# Altium integrated library National Semiconductor Amplifier.IntLib: 1665 symbols (part 36 of 44)
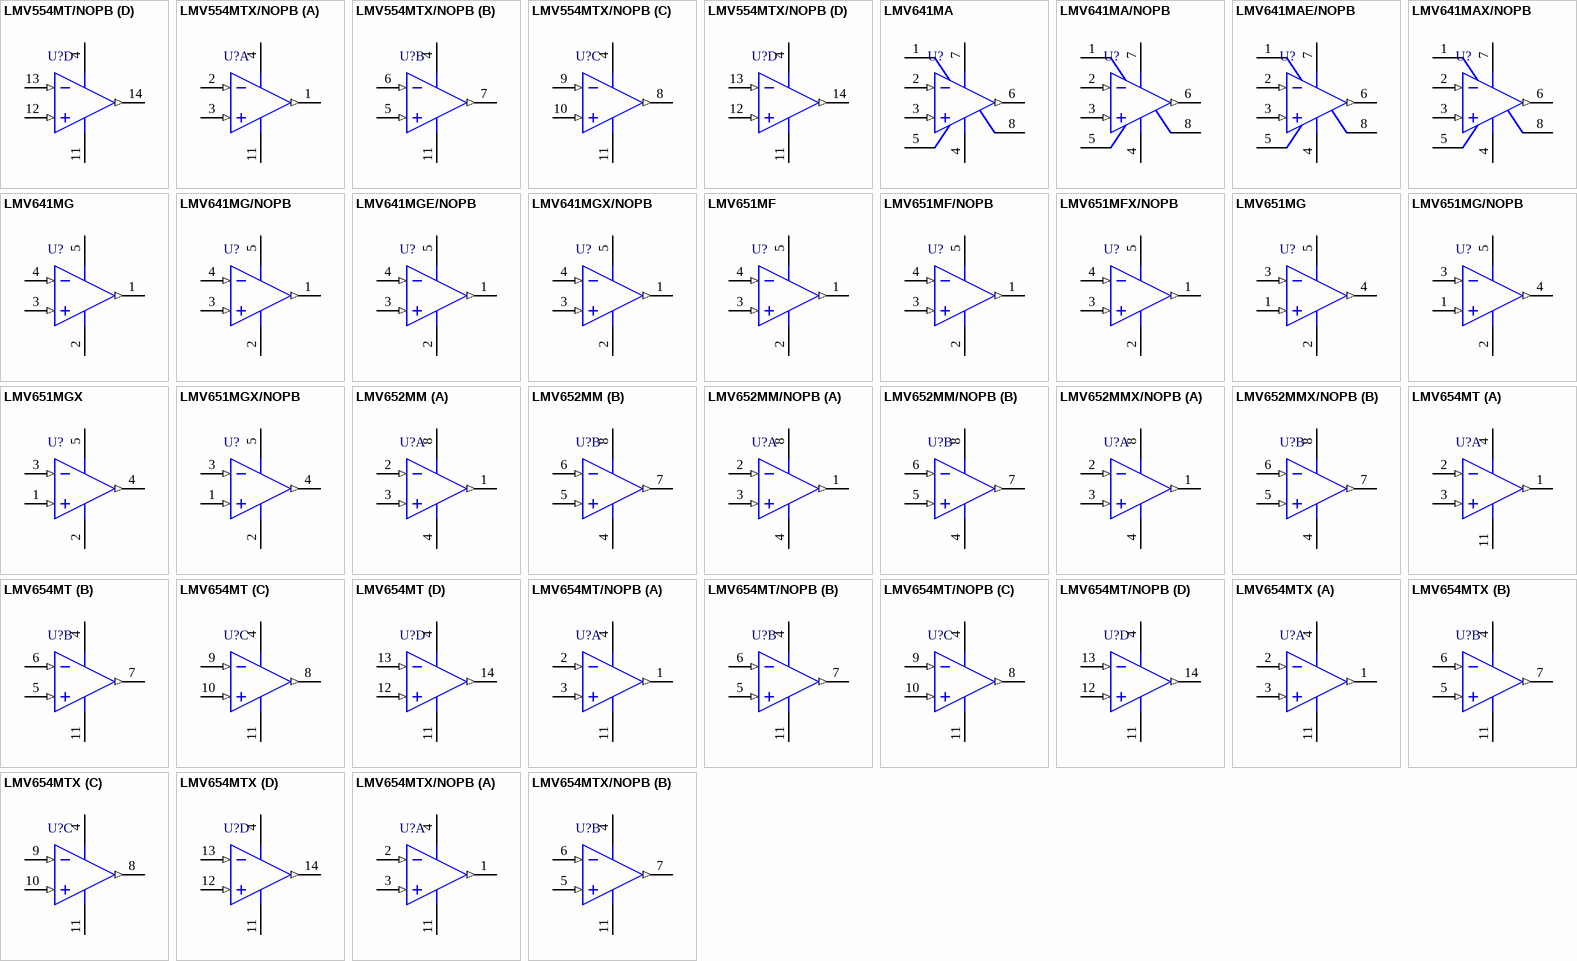
[diagram p119: symbols LMV554MT/NOPB to LMV654MTX/NOPB]

## LMV554MT/NOPB
designator U?
3 MHz, Micropower RRO Amplifier, 14-pin TSSOP, Pb-Free; PartNumber: LMV554MT/NOPB; Manufacturer: National Semiconductor; PackageTopMarking: NSUZXYTT*LMV55*4MT; PowerWise: Y; CompType: Amplifiers; DatasheetVersion: Oct-2008; PackageVersion: revD, Jun-2003; PackageReference: MTC14; PackageDescription: Molded TSSOP, JEDEC, 5 x 4.4 x 0.9mm Body, 14 Lead, 0.65mm Pitch; RoHS: Y; PinCount: 14; High-Reliability: Y; Code_JEDEC: MO-153-AB-1; ComponentLink1Description: Manufacturer URL; ComponentLink1URL: http://www.national.com/; ComponentLink2Description: LMV554 Datasheet; ComponentLink2URL: http://www.national.com/ds/LM/LMV554.pdf; ComponentLink3Description: LMV554 Web Page; ComponentLink3URL: http://www.national.com/pf/LM/LMV554.html; ComponentLink4Description: MTC14 Package Page; ComponentLink4URL: http://www.national.com/packaging/folders/mtc14.html
footprint MTC14_N (TSOP, 14-Leads, Body 5x4.4mm, Pitch 0.65mm, IPC Medium Density)
footprint MTC14_L (TSOP, 14-Leads, Body 5x4.4mm, Pitch 0.65mm, IPC High Density)
footprint MTC14_M (TSOP, 14-Leads, Body 5x4.4mm, Pitch 0.65mm, IPC Low Density)
pins on every part: 4 V+ (power), 11 V- (power)
part A pins: 1 OUTA (out), 2 INA- (in), 3 INA+ (in)
part B pins: 5 INB+ (in), 6 INB- (in), 7 OUTB (out)
part C pins: 8 OUTC (out), 9 INC- (in), 10 INC+ (in)
part D pins: 12 IND+ (in), 13 IND- (in), 14 OUTD (out)

## LMV554MTX/NOPB
designator U?
3 MHz, Micropower RRO Amplifier, 14-pin TSSOP, Pb-Free; PartNumber: LMV554MTX/NOPB; Manufacturer: National Semiconductor; PackageTopMarking: NSUZXYTT*LMV55*4MT; PowerWise: Y; CompType: Amplifiers; DatasheetVersion: Oct-2008; PackageVersion: revD, Jun-2003; PackageReference: MTC14; PackageDescription: Molded TSSOP, JEDEC, 5 x 4.4 x 0.9mm Body, 14 Lead, 0.65mm Pitch; RoHS: Y; PinCount: 14; High-Reliability: Y; Code_JEDEC: MO-153-AB-1; ComponentLink1Description: Manufacturer URL; ComponentLink1URL: http://www.national.com/; ComponentLink2Description: LMV554 Datasheet; ComponentLink2URL: http://www.national.com/ds/LM/LMV554.pdf; ComponentLink3Description: LMV554 Web Page; ComponentLink3URL: http://www.national.com/pf/LM/LMV554.html; ComponentLink4Description: MTC14 Package Page; ComponentLink4URL: http://www.national.com/packaging/folders/mtc14.html
footprint MTC14_N (TSOP, 14-Leads, Body 5x4.4mm, Pitch 0.65mm, IPC Medium Density)
footprint MTC14_L (TSOP, 14-Leads, Body 5x4.4mm, Pitch 0.65mm, IPC High Density)
footprint MTC14_M (TSOP, 14-Leads, Body 5x4.4mm, Pitch 0.65mm, IPC Low Density)
pins on every part: 4 V+ (power), 11 V- (power)
part A pins: 1 OUTA (out), 2 INA- (in), 3 INA+ (in)
part B pins: 5 INB+ (in), 6 INB- (in), 7 OUTB (out)
part C pins: 8 OUTC (out), 9 INC- (in), 10 INC+ (in)
part D pins: 12 IND+ (in), 13 IND- (in), 14 OUTD (out)

## LMV641MA
designator U?
10 MHz, 12V, Low Power Amplifier, 8-pin Narrow SOIC; PartNumber: LMV641MA; Manufacturer: National Semiconductor; PackageTopMarking: NSZXTT*LMV64*1MA; PowerWise: Y; CompType: Amplifiers; DatasheetVersion: Sep-2007; PackageVersion: revM, May-2009; PackageReference: M08A; PackageDescription: SOIC Narrow, 4.9 x 3.9 x 1.45mm, 8 Lead, 1.27mm Pitch; RoHS: Y; PinCount: 8; High-Reliability: Y; Code_JEDEC: MS-012-AA; Code_IPC: SOIC127P600-8; ComponentLink1Description: Manufacturer URL; ComponentLink1URL: http://www.national.com/; ComponentLink2Description: LMV641 Datasheet; ComponentLink2URL: http://www.national.com/ds/LM/LMV641.pdf; ComponentLink3Description: LMV641 Web Page; ComponentLink3URL: http://www.national.com/pf/LM/LMV641.html; ComponentLink4Description: M08A Package Page; ComponentLink4URL: http://www.national.com/packaging/folders/m08a.html
footprint M08A_N (SOIC, 8-Leads, Body 4.9x3.9mm, Pitch 1.27mm, IPC Medium Density)
footprint M08A_L (SOIC, 8-Leads, Body 4.9x3.9mm, Pitch 1.27mm, IPC High Density)
footprint M08A_M (SOIC, 8-Leads, Body 4.9x3.9mm, Pitch 1.27mm, IPC Low Density)
pins: 1 NC, 2 IN- (in), 3 IN+ (in), 4 V- (power), 5 NC, 6 OUT (out), 7 V+ (power), 8 NC

## LMV641MA/NOPB
designator U?
10 MHz, 12V, Low Power Amplifier, 8-pin Narrow SOIC, Pb-Free; PartNumber: LMV641MA/NOPB; Manufacturer: National Semiconductor; PackageTopMarking: NSZXTT*LMV64*1MA; PowerWise: Y; CompType: Amplifiers; DatasheetVersion: Sep-2007; PackageVersion: revM, May-2009; PackageReference: M08A; PackageDescription: SOIC Narrow, 4.9 x 3.9 x 1.45mm, 8 Lead, 1.27mm Pitch; RoHS: Y; PinCount: 8; High-Reliability: Y; Code_JEDEC: MS-012-AA; Code_IPC: SOIC127P600-8; ComponentLink1Description: Manufacturer URL; ComponentLink1URL: http://www.national.com/; ComponentLink2Description: LMV641 Datasheet; ComponentLink2URL: http://www.national.com/ds/LM/LMV641.pdf; ComponentLink3Description: LMV641 Web Page; ComponentLink3URL: http://www.national.com/pf/LM/LMV641.html; ComponentLink4Description: M08A Package Page; ComponentLink4URL: http://www.national.com/packaging/folders/m08a.html
footprint M08A_N (SOIC, 8-Leads, Body 4.9x3.9mm, Pitch 1.27mm, IPC Medium Density)
footprint M08A_L (SOIC, 8-Leads, Body 4.9x3.9mm, Pitch 1.27mm, IPC High Density)
footprint M08A_M (SOIC, 8-Leads, Body 4.9x3.9mm, Pitch 1.27mm, IPC Low Density)
pins: 1 NC, 2 IN- (in), 3 IN+ (in), 4 V- (power), 5 NC, 6 OUT (out), 7 V+ (power), 8 NC

## LMV641MAE/NOPB
designator U?
10 MHz, 12V, Low Power Amplifier, 8-pin Narrow SOIC, Pb-Free; PartNumber: LMV641MAE/NOPB; Manufacturer: National Semiconductor; PackageTopMarking: NSZXTT*LMV64*1MA; PowerWise: Y; CompType: Amplifiers; DatasheetVersion: Sep-2007; PackageVersion: revM, May-2009; PackageReference: M08A; PackageDescription: SOIC Narrow, 4.9 x 3.9 x 1.45mm, 8 Lead, 1.27mm Pitch; RoHS: Y; PinCount: 8; High-Reliability: Y; Code_JEDEC: MS-012-AA; Code_IPC: SOIC127P600-8; ComponentLink1Description: Manufacturer URL; ComponentLink1URL: http://www.national.com/; ComponentLink2Description: LMV641 Datasheet; ComponentLink2URL: http://www.national.com/ds/LM/LMV641.pdf; ComponentLink3Description: LMV641 Web Page; ComponentLink3URL: http://www.national.com/pf/LM/LMV641.html; ComponentLink4Description: M08A Package Page; ComponentLink4URL: http://www.national.com/packaging/folders/m08a.html
footprint M08A_N (SOIC, 8-Leads, Body 4.9x3.9mm, Pitch 1.27mm, IPC Medium Density)
footprint M08A_L (SOIC, 8-Leads, Body 4.9x3.9mm, Pitch 1.27mm, IPC High Density)
footprint M08A_M (SOIC, 8-Leads, Body 4.9x3.9mm, Pitch 1.27mm, IPC Low Density)
pins: 1 NC, 2 IN- (in), 3 IN+ (in), 4 V- (power), 5 NC, 6 OUT (out), 7 V+ (power), 8 NC

## LMV641MAX/NOPB
designator U?
10 MHz, 12V, Low Power Amplifier, 8-pin Narrow SOIC, Pb-Free; PartNumber: LMV641MAX/NOPB; Manufacturer: National Semiconductor; PackageTopMarking: NSZXTT*LMV64*1MA; PowerWise: Y; CompType: Amplifiers; DatasheetVersion: Sep-2007; PackageVersion: revM, May-2009; PackageReference: M08A; PackageDescription: SOIC Narrow, 4.9 x 3.9 x 1.45mm, 8 Lead, 1.27mm Pitch; RoHS: Y; PinCount: 8; High-Reliability: Y; Code_JEDEC: MS-012-AA; Code_IPC: SOIC127P600-8; ComponentLink1Description: Manufacturer URL; ComponentLink1URL: http://www.national.com/; ComponentLink2Description: LMV641 Datasheet; ComponentLink2URL: http://www.national.com/ds/LM/LMV641.pdf; ComponentLink3Description: LMV641 Web Page; ComponentLink3URL: http://www.national.com/pf/LM/LMV641.html; ComponentLink4Description: M08A Package Page; ComponentLink4URL: http://www.national.com/packaging/folders/m08a.html
footprint M08A_N (SOIC, 8-Leads, Body 4.9x3.9mm, Pitch 1.27mm, IPC Medium Density)
footprint M08A_L (SOIC, 8-Leads, Body 4.9x3.9mm, Pitch 1.27mm, IPC High Density)
footprint M08A_M (SOIC, 8-Leads, Body 4.9x3.9mm, Pitch 1.27mm, IPC Low Density)
pins: 1 NC, 2 IN- (in), 3 IN+ (in), 4 V- (power), 5 NC, 6 OUT (out), 7 V+ (power), 8 NC

## LMV641MG
designator U?
10 MHz, 12V, Low Power Amplifier, 5-pin SC-70; PartNumber: LMV641MG; Manufacturer: National Semiconductor; PackageTopMarking: A99*XTT; PowerWise: Y; CompType: Amplifiers; DatasheetVersion: Sep-2007; PackageVersion: revD, Jun-2007; PackageReference: MAA05A; PackageDescription: Molded SC-70, 2 x 1.25 x .9mm, 5 Lead, 0.65mm Pitch; RoHS: Y; PinCount: 5; High-Reliability: Y; Code_JEITA: SC-88A; Code_JEDEC: MO-203-AA; Code_IPC: SOT353-5; ComponentLink1Description: Manufacturer URL; ComponentLink1URL: http://www.national.com/; ComponentLink2Description: LMV641 Datasheet; ComponentLink2URL: http://www.national.com/ds/LM/LMV641.pdf; ComponentLink3Description: LMV641 Web Page; ComponentLink3URL: http://www.national.com/pf/LM/LMV641.html; ComponentLink4Description: MAA05A Package Page; ComponentLink4URL: http://www.national.com/packaging/folders/maa05a.html
footprint MAA05A_N (SOT353, 5-Leads, Body 2x1.3mm, Pitch 0.65mm, Lead Span 2.1mm, IPC Medium Density)
footprint MAA05A_L (SOT353, 5-Leads, Body 2x1.3mm, Pitch 0.65mm, Lead Span 2.1mm, IPC High Density)
footprint MAA05A_M (SOT353, 5-Leads, Body 2x1.3mm, Pitch 0.65mm, Lead Span 2.1mm, IPC Low Density)
pins: 1 OUT (out), 2 V- (power), 3 IN+ (in), 4 IN- (in), 5 V+ (power)

## LMV641MG/NOPB
designator U?
10 MHz, 12V, Low Power Amplifier, 5-pin SC-70, Pb-Free; PartNumber: LMV641MG/NOPB; Manufacturer: National Semiconductor; PackageTopMarking: A99*XTT; PowerWise: Y; CompType: Amplifiers; DatasheetVersion: Sep-2007; PackageVersion: revD, Jun-2007; PackageReference: MAA05A; PackageDescription: Molded SC-70, 2 x 1.25 x .9mm, 5 Lead, 0.65mm Pitch; RoHS: Y; PinCount: 5; High-Reliability: Y; Code_JEITA: SC-88A; Code_JEDEC: MO-203-AA; Code_IPC: SOT353-5; ComponentLink1Description: Manufacturer URL; ComponentLink1URL: http://www.national.com/; ComponentLink2Description: LMV641 Datasheet; ComponentLink2URL: http://www.national.com/ds/LM/LMV641.pdf; ComponentLink3Description: LMV641 Web Page; ComponentLink3URL: http://www.national.com/pf/LM/LMV641.html; ComponentLink4Description: MAA05A Package Page; ComponentLink4URL: http://www.national.com/packaging/folders/maa05a.html
footprint MAA05A_N (SOT353, 5-Leads, Body 2x1.3mm, Pitch 0.65mm, Lead Span 2.1mm, IPC Medium Density)
footprint MAA05A_L (SOT353, 5-Leads, Body 2x1.3mm, Pitch 0.65mm, Lead Span 2.1mm, IPC High Density)
footprint MAA05A_M (SOT353, 5-Leads, Body 2x1.3mm, Pitch 0.65mm, Lead Span 2.1mm, IPC Low Density)
pins: 1 OUT (out), 2 V- (power), 3 IN+ (in), 4 IN- (in), 5 V+ (power)

## LMV641MGE/NOPB
designator U?
10 MHz, 12V, Low Power Amplifier, 5-pin SC-70, Pb-Free; PartNumber: LMV641MGE/NOPB; Manufacturer: National Semiconductor; PackageTopMarking: A99*XTT; PowerWise: Y; CompType: Amplifiers; DatasheetVersion: Sep-2007; PackageVersion: revD, Jun-2007; PackageReference: MAA05A; PackageDescription: Molded SC-70, 2 x 1.25 x .9mm, 5 Lead, 0.65mm Pitch; RoHS: Y; PinCount: 5; High-Reliability: Y; Code_JEITA: SC-88A; Code_JEDEC: MO-203-AA; Code_IPC: SOT353-5; ComponentLink1Description: Manufacturer URL; ComponentLink1URL: http://www.national.com/; ComponentLink2Description: LMV641 Datasheet; ComponentLink2URL: http://www.national.com/ds/LM/LMV641.pdf; ComponentLink3Description: LMV641 Web Page; ComponentLink3URL: http://www.national.com/pf/LM/LMV641.html; ComponentLink4Description: MAA05A Package Page; ComponentLink4URL: http://www.national.com/packaging/folders/maa05a.html
footprint MAA05A_N (SOT353, 5-Leads, Body 2x1.3mm, Pitch 0.65mm, Lead Span 2.1mm, IPC Medium Density)
footprint MAA05A_L (SOT353, 5-Leads, Body 2x1.3mm, Pitch 0.65mm, Lead Span 2.1mm, IPC High Density)
footprint MAA05A_M (SOT353, 5-Leads, Body 2x1.3mm, Pitch 0.65mm, Lead Span 2.1mm, IPC Low Density)
pins: 1 OUT (out), 2 V- (power), 3 IN+ (in), 4 IN- (in), 5 V+ (power)

## LMV641MGX/NOPB
designator U?
10 MHz, 12V, Low Power Amplifier, 5-pin SC-70, Pb-Free; PartNumber: LMV641MGX/NOPB; Manufacturer: National Semiconductor; PackageTopMarking: A99*XTT; PowerWise: Y; CompType: Amplifiers; DatasheetVersion: Sep-2007; PackageVersion: revD, Jun-2007; PackageReference: MAA05A; PackageDescription: Molded SC-70, 2 x 1.25 x .9mm, 5 Lead, 0.65mm Pitch; RoHS: Y; PinCount: 5; High-Reliability: Y; Code_JEITA: SC-88A; Code_JEDEC: MO-203-AA; Code_IPC: SOT353-5; ComponentLink1Description: Manufacturer URL; ComponentLink1URL: http://www.national.com/; ComponentLink2Description: LMV641 Datasheet; ComponentLink2URL: http://www.national.com/ds/LM/LMV641.pdf; ComponentLink3Description: LMV641 Web Page; ComponentLink3URL: http://www.national.com/pf/LM/LMV641.html; ComponentLink4Description: MAA05A Package Page; ComponentLink4URL: http://www.national.com/packaging/folders/maa05a.html
footprint MAA05A_N (SOT353, 5-Leads, Body 2x1.3mm, Pitch 0.65mm, Lead Span 2.1mm, IPC Medium Density)
footprint MAA05A_L (SOT353, 5-Leads, Body 2x1.3mm, Pitch 0.65mm, Lead Span 2.1mm, IPC High Density)
footprint MAA05A_M (SOT353, 5-Leads, Body 2x1.3mm, Pitch 0.65mm, Lead Span 2.1mm, IPC Low Density)
pins: 1 OUT (out), 2 V- (power), 3 IN+ (in), 4 IN- (in), 5 V+ (power)

## LMV651MF
designator U?
12 MHz, Low Voltage, Low Power Amplifier, 5-pin SOT-23; PartNumber: LMV651MF; Manufacturer: National Semiconductor; PackageTopMarking: AY2A*XTT; PowerWise: N; CompType: Amplifiers; High-Reliability: Y; DatasheetVersion: Oct-2008; PackageVersion: revD, Aug-2008; PackageReference: MF05A; PackageDescription: Molded SOT-23, .115 x .063 x .040 in Body, 5 Lead, .0375 in Pitch; RoHS: Y; PinCount: 5; ComponentLink1Description: Manufacturer URL; ComponentLink1URL: http://www.national.com/; ComponentLink2Description: LMV651 Datasheet; ComponentLink2URL: http://www.national.com/ds/LM/LMV651.pdf; ComponentLink3Description: LMV651 Web Page; ComponentLink3URL: http://www.national.com/pf/LM/LMV651.html; ComponentLink4Description: MF05A Package Page; ComponentLink4URL: http://www.national.com/packaging/folders/mf05a.html
footprint MF05A_N (SOT23, 5-Leads, Body 2.9x1.6mm, Pitch 0.95mm, Lead Span 2.8mm, IPC Medium Density)
footprint MF05A_L (SOT23, 5-Leads, Body 2.9x1.6mm, Pitch 0.95mm, Lead Span 2.8mm, IPC High Density)
footprint MF05A_M (SOT23, 5-Leads, Body 2.9x1.6mm, Pitch 0.95mm, Lead Span 2.8mm, IPC Low Density)
pins: 1 OUT (out), 2 V- (power), 3 IN+ (in), 4 IN- (in), 5 V+ (power)

## LMV651MF/NOPB
designator U?
12 MHz, Low Voltage, Low Power Amplifier, 5-pin SOT-23, Pb-Free; PartNumber: LMV651MF/NOPB; Manufacturer: National Semiconductor; PackageTopMarking: AY2A*XTT; PowerWise: N; CompType: Amplifiers; High-Reliability: Y; DatasheetVersion: Oct-2008; PackageVersion: revD, Aug-2008; PackageReference: MF05A; PackageDescription: Molded SOT-23, .115 x .063 x .040 in Body, 5 Lead, .0375 in Pitch; RoHS: Y; PinCount: 5; ComponentLink1Description: Manufacturer URL; ComponentLink1URL: http://www.national.com/; ComponentLink2Description: LMV651 Datasheet; ComponentLink2URL: http://www.national.com/ds/LM/LMV651.pdf; ComponentLink3Description: LMV651 Web Page; ComponentLink3URL: http://www.national.com/pf/LM/LMV651.html; ComponentLink4Description: MF05A Package Page; ComponentLink4URL: http://www.national.com/packaging/folders/mf05a.html
footprint MF05A_N (SOT23, 5-Leads, Body 2.9x1.6mm, Pitch 0.95mm, Lead Span 2.8mm, IPC Medium Density)
footprint MF05A_L (SOT23, 5-Leads, Body 2.9x1.6mm, Pitch 0.95mm, Lead Span 2.8mm, IPC High Density)
footprint MF05A_M (SOT23, 5-Leads, Body 2.9x1.6mm, Pitch 0.95mm, Lead Span 2.8mm, IPC Low Density)
pins: 1 OUT (out), 2 V- (power), 3 IN+ (in), 4 IN- (in), 5 V+ (power)

## LMV651MFX/NOPB
designator U?
12 MHz, Low Voltage, Low Power Amplifier, 5-pin SOT-23, Pb-Free; PartNumber: LMV651MFX/NOPB; Manufacturer: National Semiconductor; PackageTopMarking: AY2A*XTT; PowerWise: N; CompType: Amplifiers; High-Reliability: Y; DatasheetVersion: Oct-2008; PackageVersion: revD, Aug-2008; PackageReference: MF05A; PackageDescription: Molded SOT-23, .115 x .063 x .040 in Body, 5 Lead, .0375 in Pitch; RoHS: Y; PinCount: 5; ComponentLink1Description: Manufacturer URL; ComponentLink1URL: http://www.national.com/; ComponentLink2Description: LMV651 Datasheet; ComponentLink2URL: http://www.national.com/ds/LM/LMV651.pdf; ComponentLink3Description: LMV651 Web Page; ComponentLink3URL: http://www.national.com/pf/LM/LMV651.html; ComponentLink4Description: MF05A Package Page; ComponentLink4URL: http://www.national.com/packaging/folders/mf05a.html
footprint MF05A_N (SOT23, 5-Leads, Body 2.9x1.6mm, Pitch 0.95mm, Lead Span 2.8mm, IPC Medium Density)
footprint MF05A_L (SOT23, 5-Leads, Body 2.9x1.6mm, Pitch 0.95mm, Lead Span 2.8mm, IPC High Density)
footprint MF05A_M (SOT23, 5-Leads, Body 2.9x1.6mm, Pitch 0.95mm, Lead Span 2.8mm, IPC Low Density)
pins: 1 OUT (out), 2 V- (power), 3 IN+ (in), 4 IN- (in), 5 V+ (power)

## LMV651MG
designator U?
12 MHz, Low Voltage, Low Power Amplifier, 5-pin SC-70; PartNumber: LMV651MG; Manufacturer: National Semiconductor; PackageTopMarking: A93*XTT; PowerWise: Y; CompType: Amplifiers; DatasheetVersion: Oct-2008; PackageVersion: revD, Jun-2007; PackageReference: MAA05A; PackageDescription: Molded SC-70, 2 x 1.25 x .9mm, 5 Lead, 0.65mm Pitch; RoHS: N; PinCount: 5; High-Reliability: Y; Code_JEITA: SC-88A; Code_JEDEC: MO-203-AA; Code_IPC: SOT353-5; ComponentLink1Description: Manufacturer URL; ComponentLink1URL: http://www.national.com/; ComponentLink2Description: LMV651 Datasheet; ComponentLink2URL: http://www.national.com/ds/LM/LMV651.pdf; ComponentLink3Description: LMV651 Web Page; ComponentLink3URL: http://www.national.com/pf/LM/LMV651.html; ComponentLink4Description: MAA05A Package Page; ComponentLink4URL: http://www.national.com/packaging/folders/maa05a.html
footprint MAA05A_N (SOT353, 5-Leads, Body 2x1.3mm, Pitch 0.65mm, Lead Span 2.1mm, IPC Medium Density)
footprint MAA05A_L (SOT353, 5-Leads, Body 2x1.3mm, Pitch 0.65mm, Lead Span 2.1mm, IPC High Density)
footprint MAA05A_M (SOT353, 5-Leads, Body 2x1.3mm, Pitch 0.65mm, Lead Span 2.1mm, IPC Low Density)
pins: 1 IN+ (in), 2 V- (power), 3 IN- (in), 4 OUT (out), 5 V+ (power)

## LMV651MG/NOPB
designator U?
12 MHz, Low Voltage, Low Power Amplifier, 5-pin SC-70, Pb-Free; PartNumber: LMV651MG/NOPB; Manufacturer: National Semiconductor; PackageTopMarking: A93*XTT; PowerWise: Y; CompType: Amplifiers; DatasheetVersion: Oct-2008; PackageVersion: revD, Jun-2007; PackageReference: MAA05A; PackageDescription: Molded SC-70, 2 x 1.25 x .9mm, 5 Lead, 0.65mm Pitch; RoHS: Y; PinCount: 5; High-Reliability: Y; Code_JEITA: SC-88A; Code_JEDEC: MO-203-AA; Code_IPC: SOT353-5; ComponentLink1Description: Manufacturer URL; ComponentLink1URL: http://www.national.com/; ComponentLink2Description: LMV651 Datasheet; ComponentLink2URL: http://www.national.com/ds/LM/LMV651.pdf; ComponentLink3Description: LMV651 Web Page; ComponentLink3URL: http://www.national.com/pf/LM/LMV651.html; ComponentLink4Description: MAA05A Package Page; ComponentLink4URL: http://www.national.com/packaging/folders/maa05a.html
footprint MAA05A_N (SOT353, 5-Leads, Body 2x1.3mm, Pitch 0.65mm, Lead Span 2.1mm, IPC Medium Density)
footprint MAA05A_L (SOT353, 5-Leads, Body 2x1.3mm, Pitch 0.65mm, Lead Span 2.1mm, IPC High Density)
footprint MAA05A_M (SOT353, 5-Leads, Body 2x1.3mm, Pitch 0.65mm, Lead Span 2.1mm, IPC Low Density)
pins: 1 IN+ (in), 2 V- (power), 3 IN- (in), 4 OUT (out), 5 V+ (power)

## LMV651MGX
designator U?
12 MHz, Low Voltage, Low Power Amplifier, 5-pin SC-70; PartNumber: LMV651MGX; Manufacturer: National Semiconductor; PackageTopMarking: A93*XTT; PowerWise: Y; CompType: Amplifiers; DatasheetVersion: Oct-2008; PackageVersion: revD, Jun-2007; PackageReference: MAA05A; PackageDescription: Molded SC-70, 2 x 1.25 x .9mm, 5 Lead, 0.65mm Pitch; RoHS: N; PinCount: 5; High-Reliability: Y; Code_JEITA: SC-88A; Code_JEDEC: MO-203-AA; Code_IPC: SOT353-5; ComponentLink1Description: Manufacturer URL; ComponentLink1URL: http://www.national.com/; ComponentLink2Description: LMV651 Datasheet; ComponentLink2URL: http://www.national.com/ds/LM/LMV651.pdf; ComponentLink3Description: LMV651 Web Page; ComponentLink3URL: http://www.national.com/pf/LM/LMV651.html; ComponentLink4Description: MAA05A Package Page; ComponentLink4URL: http://www.national.com/packaging/folders/maa05a.html
footprint MAA05A_N (SOT353, 5-Leads, Body 2x1.3mm, Pitch 0.65mm, Lead Span 2.1mm, IPC Medium Density)
footprint MAA05A_L (SOT353, 5-Leads, Body 2x1.3mm, Pitch 0.65mm, Lead Span 2.1mm, IPC High Density)
footprint MAA05A_M (SOT353, 5-Leads, Body 2x1.3mm, Pitch 0.65mm, Lead Span 2.1mm, IPC Low Density)
pins: 1 IN+ (in), 2 V- (power), 3 IN- (in), 4 OUT (out), 5 V+ (power)

## LMV651MGX/NOPB
designator U?
12 MHz, Low Voltage, Low Power Amplifier, 5-pin SC-70, Pb-Free; PartNumber: LMV651MGX/NOPB; Manufacturer: National Semiconductor; PackageTopMarking: A93*XTT; PowerWise: Y; CompType: Amplifiers; DatasheetVersion: Oct-2008; PackageVersion: revD, Jun-2007; PackageReference: MAA05A; PackageDescription: Molded SC-70, 2 x 1.25 x .9mm, 5 Lead, 0.65mm Pitch; RoHS: Y; PinCount: 5; High-Reliability: Y; Code_JEITA: SC-88A; Code_JEDEC: MO-203-AA; Code_IPC: SOT353-5; ComponentLink1Description: Manufacturer URL; ComponentLink1URL: http://www.national.com/; ComponentLink2Description: LMV651 Datasheet; ComponentLink2URL: http://www.national.com/ds/LM/LMV651.pdf; ComponentLink3Description: LMV651 Web Page; ComponentLink3URL: http://www.national.com/pf/LM/LMV651.html; ComponentLink4Description: MAA05A Package Page; ComponentLink4URL: http://www.national.com/packaging/folders/maa05a.html
footprint MAA05A_N (SOT353, 5-Leads, Body 2x1.3mm, Pitch 0.65mm, Lead Span 2.1mm, IPC Medium Density)
footprint MAA05A_L (SOT353, 5-Leads, Body 2x1.3mm, Pitch 0.65mm, Lead Span 2.1mm, IPC High Density)
footprint MAA05A_M (SOT353, 5-Leads, Body 2x1.3mm, Pitch 0.65mm, Lead Span 2.1mm, IPC Low Density)
pins: 1 IN+ (in), 2 V- (power), 3 IN- (in), 4 OUT (out), 5 V+ (power)

## LMV652MM
designator U?
12 MHz, Low Voltage, Low Power Amplifier, 8-pin Mini SOIC; PartNumber: LMV652MM; Manufacturer: National Semiconductor; PackageTopMarking: ZXTT*AB3A; PowerWise: Y; CompType: Amplifiers; DatasheetVersion: Oct-2008; PackageVersion: revF, Apr-2008; PackageReference: MUA08A; PackageDescription: MINI SOIC, .118 x .118 x .034in, 8 Lead, .0256in Pitch; RoHS: Y; PinCount: 8; High-Reliability: Y; Code_JEDEC: MO-187-AA; ComponentLink1Description: Manufacturer URL; ComponentLink1URL: http://www.national.com/; ComponentLink2Description: LMV652 Datasheet; ComponentLink2URL: http://www.national.com/ds/LM/LMV652.pdf; ComponentLink3Description: LMV652 Web Page; ComponentLink3URL: http://www.national.com/pf/LM/LMV652.html; ComponentLink4Description: MUA08A Package Page; ComponentLink4URL: http://www.national.com/packaging/folders/mua08a.html
footprint MUA08A_N (TSOP, 8-Leads, Body 3x3mm, Pitch 0.65mm, IPC Medium Density)
footprint MUA08A_L (TSOP, 8-Leads, Body 3x3mm, Pitch 0.65mm, IPC High Density)
footprint MUA08A_M (TSOP, 8-Leads, Body 3x3mm, Pitch 0.65mm, IPC Low Density)
pins on every part: 4 V- (power), 8 V+ (power)
part A pins: 1 OUTA (out), 2 INA- (in), 3 INA+ (in)
part B pins: 5 INB+ (in), 6 INB- (in), 7 OUTB (out)

## LMV652MM/NOPB
designator U?
12 MHz, Low Voltage, Low Power Amplifier, 8-pin Mini SOIC, Pb-Free; PartNumber: LMV652MM/NOPB; Manufacturer: National Semiconductor; PackageTopMarking: ZXTT*AB3A; PowerWise: Y; CompType: Amplifiers; DatasheetVersion: Oct-2008; PackageVersion: revF, Apr-2008; PackageReference: MUA08A; PackageDescription: MINI SOIC, .118 x .118 x .034in, 8 Lead, .0256in Pitch; RoHS: Y; PinCount: 8; High-Reliability: Y; Code_JEDEC: MO-187-AA; ComponentLink1Description: Manufacturer URL; ComponentLink1URL: http://www.national.com/; ComponentLink2Description: LMV652 Datasheet; ComponentLink2URL: http://www.national.com/ds/LM/LMV652.pdf; ComponentLink3Description: LMV652 Web Page; ComponentLink3URL: http://www.national.com/pf/LM/LMV652.html; ComponentLink4Description: MUA08A Package Page; ComponentLink4URL: http://www.national.com/packaging/folders/mua08a.html
footprint MUA08A_N (TSOP, 8-Leads, Body 3x3mm, Pitch 0.65mm, IPC Medium Density)
footprint MUA08A_L (TSOP, 8-Leads, Body 3x3mm, Pitch 0.65mm, IPC High Density)
footprint MUA08A_M (TSOP, 8-Leads, Body 3x3mm, Pitch 0.65mm, IPC Low Density)
pins on every part: 4 V- (power), 8 V+ (power)
part A pins: 1 OUTA (out), 2 INA- (in), 3 INA+ (in)
part B pins: 5 INB+ (in), 6 INB- (in), 7 OUTB (out)

## LMV652MMX/NOPB
designator U?
12 MHz, Low Voltage, Low Power Amplifier, 8-pin Mini SOIC, Pb-Free; PartNumber: LMV652MMX/NOPB; Manufacturer: National Semiconductor; PackageTopMarking: ZXTT*AB3A; PowerWise: Y; CompType: Amplifiers; DatasheetVersion: Oct-2008; PackageVersion: revF, Apr-2008; PackageReference: MUA08A; PackageDescription: MINI SOIC, .118 x .118 x .034in, 8 Lead, .0256in Pitch; RoHS: Y; PinCount: 8; High-Reliability: Y; Code_JEDEC: MO-187-AA; ComponentLink1Description: Manufacturer URL; ComponentLink1URL: http://www.national.com/; ComponentLink2Description: LMV652 Datasheet; ComponentLink2URL: http://www.national.com/ds/LM/LMV652.pdf; ComponentLink3Description: LMV652 Web Page; ComponentLink3URL: http://www.national.com/pf/LM/LMV652.html; ComponentLink4Description: MUA08A Package Page; ComponentLink4URL: http://www.national.com/packaging/folders/mua08a.html
footprint MUA08A_N (TSOP, 8-Leads, Body 3x3mm, Pitch 0.65mm, IPC Medium Density)
footprint MUA08A_L (TSOP, 8-Leads, Body 3x3mm, Pitch 0.65mm, IPC High Density)
footprint MUA08A_M (TSOP, 8-Leads, Body 3x3mm, Pitch 0.65mm, IPC Low Density)
pins on every part: 4 V- (power), 8 V+ (power)
part A pins: 1 OUTA (out), 2 INA- (in), 3 INA+ (in)
part B pins: 5 INB+ (in), 6 INB- (in), 7 OUTB (out)

## LMV654MT
designator U?
Quad, 12 MHz, Low Voltage, Low Power Amplifier, 14-pin TSSOP; PartNumber: LMV654MT; Manufacturer: National Semiconductor; PackageTopMarking: NSUZXYTT*LMV65*4MT; PowerWise: Y; CompType: Amplifiers; DatasheetVersion: Oct-2008; PackageVersion: revD, Jun-2003; PackageReference: MTC14; PackageDescription: Molded TSSOP, JEDEC, 5 x 4.4 x 0.9mm Body, 14 Lead, 0.65mm Pitch; RoHS: N; PinCount: 14; High-Reliability: Y; Code_JEDEC: MO-153-AB-1; ComponentLink1Description: Manufacturer URL; ComponentLink1URL: http://www.national.com/; ComponentLink2Description: LMV654 Datasheet; ComponentLink2URL: http://www.national.com/ds/LM/LMV654.pdf; ComponentLink3Description: LMV654 Web Page; ComponentLink3URL: http://www.national.com/pf/LM/LMV654.html; ComponentLink4Description: MTC14 Package Page; ComponentLink4URL: http://www.national.com/packaging/folders/mtc14.html
footprint MTC14_N (TSOP, 14-Leads, Body 5x4.4mm, Pitch 0.65mm, IPC Medium Density)
footprint MTC14_L (TSOP, 14-Leads, Body 5x4.4mm, Pitch 0.65mm, IPC High Density)
footprint MTC14_M (TSOP, 14-Leads, Body 5x4.4mm, Pitch 0.65mm, IPC Low Density)
pins on every part: 4 V+ (power), 11 V- (power)
part A pins: 1 OUTA (out), 2 INA- (in), 3 INA+ (in)
part B pins: 5 INB+ (in), 6 INB- (in), 7 OUTB (out)
part C pins: 8 OUTC (out), 9 INC- (in), 10 INC+ (in)
part D pins: 12 IND+ (in), 13 IND- (in), 14 OUTD (out)

## LMV654MT/NOPB
designator U?
Quad, 12 MHz, Low Voltage, Low Power Amplifier, 14-pin TSSOP, Pb-Free; PartNumber: LMV654MT/NOPB; Manufacturer: National Semiconductor; PackageTopMarking: NSUZXYTT*LMV65*4MT; PowerWise: Y; CompType: Amplifiers; DatasheetVersion: Oct-2008; PackageVersion: revD, Jun-2003; PackageReference: MTC14; PackageDescription: Molded TSSOP, JEDEC, 5 x 4.4 x 0.9mm Body, 14 Lead, 0.65mm Pitch; RoHS: Y; PinCount: 14; High-Reliability: Y; Code_JEDEC: MO-153-AB-1; ComponentLink1Description: Manufacturer URL; ComponentLink1URL: http://www.national.com/; ComponentLink2Description: LMV654 Datasheet; ComponentLink2URL: http://www.national.com/ds/LM/LMV654.pdf; ComponentLink3Description: LMV654 Web Page; ComponentLink3URL: http://www.national.com/pf/LM/LMV654.html; ComponentLink4Description: MTC14 Package Page; ComponentLink4URL: http://www.national.com/packaging/folders/mtc14.html
footprint MTC14_N (TSOP, 14-Leads, Body 5x4.4mm, Pitch 0.65mm, IPC Medium Density)
footprint MTC14_L (TSOP, 14-Leads, Body 5x4.4mm, Pitch 0.65mm, IPC High Density)
footprint MTC14_M (TSOP, 14-Leads, Body 5x4.4mm, Pitch 0.65mm, IPC Low Density)
pins on every part: 4 V+ (power), 11 V- (power)
part A pins: 1 OUTA (out), 2 INA- (in), 3 INA+ (in)
part B pins: 5 INB+ (in), 6 INB- (in), 7 OUTB (out)
part C pins: 8 OUTC (out), 9 INC- (in), 10 INC+ (in)
part D pins: 12 IND+ (in), 13 IND- (in), 14 OUTD (out)

## LMV654MTX
designator U?
Quad, 12 MHz, Low Voltage, Low Power Amplifier, 14-pin TSSOP; PartNumber: LMV654MTX; Manufacturer: National Semiconductor; PackageTopMarking: NSUZXYTT*LMV65*4MT; PowerWise: Y; CompType: Amplifiers; DatasheetVersion: Oct-2008; PackageVersion: revD, Jun-2003; PackageReference: MTC14; PackageDescription: Molded TSSOP, JEDEC, 5 x 4.4 x 0.9mm Body, 14 Lead, 0.65mm Pitch; RoHS: N; PinCount: 14; High-Reliability: Y; Code_JEDEC: MO-153-AB-1; ComponentLink1Description: Manufacturer URL; ComponentLink1URL: http://www.national.com/; ComponentLink2Description: LMV654 Datasheet; ComponentLink2URL: http://www.national.com/ds/LM/LMV654.pdf; ComponentLink3Description: LMV654 Web Page; ComponentLink3URL: http://www.national.com/pf/LM/LMV654.html; ComponentLink4Description: MTC14 Package Page; ComponentLink4URL: http://www.national.com/packaging/folders/mtc14.html
footprint MTC14_N (TSOP, 14-Leads, Body 5x4.4mm, Pitch 0.65mm, IPC Medium Density)
footprint MTC14_L (TSOP, 14-Leads, Body 5x4.4mm, Pitch 0.65mm, IPC High Density)
footprint MTC14_M (TSOP, 14-Leads, Body 5x4.4mm, Pitch 0.65mm, IPC Low Density)
pins on every part: 4 V+ (power), 11 V- (power)
part A pins: 1 OUTA (out), 2 INA- (in), 3 INA+ (in)
part B pins: 5 INB+ (in), 6 INB- (in), 7 OUTB (out)
part C pins: 8 OUTC (out), 9 INC- (in), 10 INC+ (in)
part D pins: 12 IND+ (in), 13 IND- (in), 14 OUTD (out)

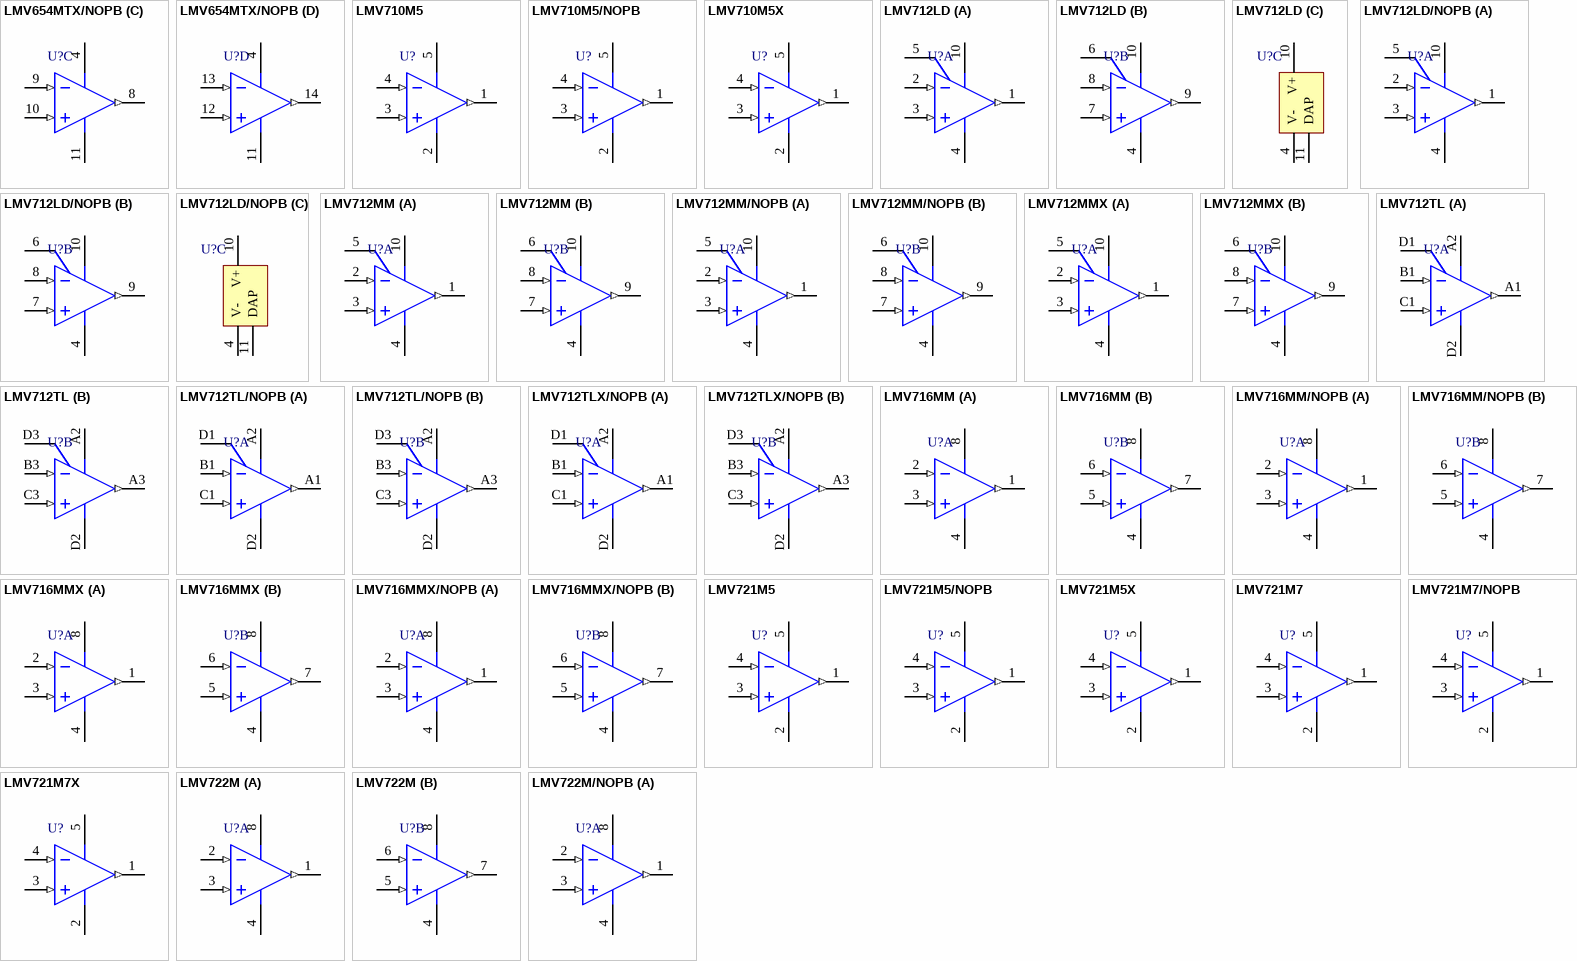
[diagram p70: symbols LMV654MTX/NOPB to LMV722M/NOPB]

## LMV654MTX/NOPB
designator U?
Quad, 12 MHz, Low Voltage, Low Power Amplifier, 14-pin TSSOP, Pb-Free; PartNumber: LMV654MTX/NOPB; Manufacturer: National Semiconductor; PackageTopMarking: NSUZXYTT*LMV65*4MT; PowerWise: Y; CompType: Amplifiers; DatasheetVersion: Oct-2008; PackageVersion: revD, Jun-2003; PackageReference: MTC14; PackageDescription: Molded TSSOP, JEDEC, 5 x 4.4 x 0.9mm Body, 14 Lead, 0.65mm Pitch; RoHS: Y; PinCount: 14; High-Reliability: Y; Code_JEDEC: MO-153-AB-1; ComponentLink1Description: Manufacturer URL; ComponentLink1URL: http://www.national.com/; ComponentLink2Description: LMV654 Datasheet; ComponentLink2URL: http://www.national.com/ds/LM/LMV654.pdf; ComponentLink3Description: LMV654 Web Page; ComponentLink3URL: http://www.national.com/pf/LM/LMV654.html; ComponentLink4Description: MTC14 Package Page; ComponentLink4URL: http://www.national.com/packaging/folders/mtc14.html
footprint MTC14_N (TSOP, 14-Leads, Body 5x4.4mm, Pitch 0.65mm, IPC Medium Density)
footprint MTC14_L (TSOP, 14-Leads, Body 5x4.4mm, Pitch 0.65mm, IPC High Density)
footprint MTC14_M (TSOP, 14-Leads, Body 5x4.4mm, Pitch 0.65mm, IPC Low Density)
pins on every part: 4 V+ (power), 11 V- (power)
part A pins: 1 OUTA (out), 2 INA- (in), 3 INA+ (in)
part B pins: 5 INB+ (in), 6 INB- (in), 7 OUTB (out)
part C pins: 8 OUTC (out), 9 INC- (in), 10 INC+ (in)
part D pins: 12 IND+ (in), 13 IND- (in), 14 OUTD (out)

## LMV710M5
designator U?
Low Power, RRIO Operational Amplifiers with High Output Current Drive and Shutdown Option, 5-pin SOT-23; PartNumber: LMV710M5; Manufacturer: National Semiconductor; PackageTopMarking: A48A*XTT; PowerWise: N; High-Reliability: Y; DatasheetVersion: Jan-2009; PackageVersion: revD, Aug-2008; PackageReference: MF05A; PackageDescription: Molded SOT-23, .115 x .063 x .040 in Body, 5 Lead, .0375 in Pitch; RoHS: N; PinCount: 5; CompType: Amplifiers; ComponentLink1Description: Manufacturer URL; ComponentLink1URL: http://www.national.com/; ComponentLink2Description: LMV710 Datasheet; ComponentLink2URL: http://www.national.com/ds/LM/LMV710.pdf; ComponentLink3Description: LMV710 Web Page; ComponentLink3URL: http://www.national.com/pf/LM/LMV710.html; ComponentLink4Description: MF05A Package Page; ComponentLink4URL: http://www.national.com/packaging/folders/mf05a.html
footprint MF05A_N (SOT23, 5-Leads, Body 2.9x1.6mm, Pitch 0.95mm, Lead Span 2.8mm, IPC Medium Density)
footprint MF05A_L (SOT23, 5-Leads, Body 2.9x1.6mm, Pitch 0.95mm, Lead Span 2.8mm, IPC High Density)
footprint MF05A_M (SOT23, 5-Leads, Body 2.9x1.6mm, Pitch 0.95mm, Lead Span 2.8mm, IPC Low Density)
pins: 1 OUT (out), 2 V- (power), 3 IN+ (in), 4 IN- (in), 5 V+ (power)

## LMV710M5/NOPB
designator U?
Low Power, RRIO Operational Amplifiers with High Output Current Drive and Shutdown Option, 5-pin SOT-23, Pb-Free; PartNumber: LMV710M5/NOPB; Manufacturer: National Semiconductor; PackageTopMarking: A48A*XTT; PowerWise: N; High-Reliability: Y; DatasheetVersion: Jan-2009; PackageVersion: revD, Aug-2008; PackageReference: MF05A; PackageDescription: Molded SOT-23, .115 x .063 x .040 in Body, 5 Lead, .0375 in Pitch; RoHS: Y; PinCount: 5; CompType: Amplifiers; ComponentLink1Description: Manufacturer URL; ComponentLink1URL: http://www.national.com/; ComponentLink2Description: LMV710 Datasheet; ComponentLink2URL: http://www.national.com/ds/LM/LMV710.pdf; ComponentLink3Description: LMV710 Web Page; ComponentLink3URL: http://www.national.com/pf/LM/LMV710.html; ComponentLink4Description: MF05A Package Page; ComponentLink4URL: http://www.national.com/packaging/folders/mf05a.html
footprint MF05A_N (SOT23, 5-Leads, Body 2.9x1.6mm, Pitch 0.95mm, Lead Span 2.8mm, IPC Medium Density)
footprint MF05A_L (SOT23, 5-Leads, Body 2.9x1.6mm, Pitch 0.95mm, Lead Span 2.8mm, IPC High Density)
footprint MF05A_M (SOT23, 5-Leads, Body 2.9x1.6mm, Pitch 0.95mm, Lead Span 2.8mm, IPC Low Density)
pins: 1 OUT (out), 2 V- (power), 3 IN+ (in), 4 IN- (in), 5 V+ (power)

## LMV710M5X
designator U?
Low Power, RRIO Operational Amplifiers with High Output Current Drive and Shutdown Option, 5-pin SOT-23; PartNumber: LMV710M5X; Manufacturer: National Semiconductor; PackageTopMarking: A48A*XTT; PowerWise: N; High-Reliability: Y; DatasheetVersion: Jan-2009; PackageVersion: revD, Aug-2008; PackageReference: MF05A; PackageDescription: Molded SOT-23, .115 x .063 x .040 in Body, 5 Lead, .0375 in Pitch; RoHS: N; PinCount: 5; CompType: Amplifiers; ComponentLink1Description: Manufacturer URL; ComponentLink1URL: http://www.national.com/; ComponentLink2Description: LMV710 Datasheet; ComponentLink2URL: http://www.national.com/ds/LM/LMV710.pdf; ComponentLink3Description: LMV710 Web Page; ComponentLink3URL: http://www.national.com/pf/LM/LMV710.html; ComponentLink4Description: MF05A Package Page; ComponentLink4URL: http://www.national.com/packaging/folders/mf05a.html
footprint MF05A_N (SOT23, 5-Leads, Body 2.9x1.6mm, Pitch 0.95mm, Lead Span 2.8mm, IPC Medium Density)
footprint MF05A_L (SOT23, 5-Leads, Body 2.9x1.6mm, Pitch 0.95mm, Lead Span 2.8mm, IPC High Density)
footprint MF05A_M (SOT23, 5-Leads, Body 2.9x1.6mm, Pitch 0.95mm, Lead Span 2.8mm, IPC Low Density)
pins: 1 OUT (out), 2 V- (power), 3 IN+ (in), 4 IN- (in), 5 V+ (power)

## LMV712LD
designator U?
Low Power, Low Noise, High Output, RRIO Dual Operational Amplifier with Independent Shutdown, 10-pin LLP; PartNumber: LMV712LD; Manufacturer: National Semiconductor; PackageTopMarking: ZXYTT*A62; PowerWise: N; CompType: Amplifiers; High-Reliability: Y; DatasheetVersion: Apr-2008; PackageVersion: revB, Jan-2003; PackageReference: LDA10A; PackageDescription: LLP, Plastic, Dual, 3 x 3 x 0.75mm Body, 10 Lead, 0.5mm Pitch; RoHS: N; PinCount: 10; ComponentLink1Description: Manufacturer URL; ComponentLink1URL: http://www.national.com/; ComponentLink2Description: LMV712 Datasheet; ComponentLink2URL: http://www.national.com/ds/LM/LMV712.pdf; ComponentLink3Description: LMV712 Web Page; ComponentLink3URL: http://www.national.com/pf/LM/LMV712.html; ComponentLink4Description: LDA10A Package Page; ComponentLink4URL: http://www.national.com/packaging/folders/lda10a.html
footprint LDA10A (PSON, 10-Leads, Body 3x3mm, Pitch 0.5mm, NSC Recommended)
pins on every part: 4 V- (power), 10 V+ (power)
part A pins: 1 OUTA (out), 2 INA- (in), 3 INA+ (in), 5 SDA
part B pins: 6 SDB, 7 INB+ (in), 8 INB- (in), 9 OUTB (out)
part C pins: 11 DAP

## LMV712LD/NOPB
designator U?
Low Power, Low Noise, High Output, RRIO Dual Operational Amplifier with Independent Shutdown, 10-pin LLP, Pb-Free; PartNumber: LMV712LD/NOPB; Manufacturer: National Semiconductor; PackageTopMarking: ZXYTT*A62; PowerWise: N; CompType: Amplifiers; High-Reliability: Y; DatasheetVersion: Apr-2008; PackageVersion: revB, Jan-2003; PackageReference: LDA10A; PackageDescription: LLP, Plastic, Dual, 3 x 3 x 0.75mm Body, 10 Lead, 0.5mm Pitch; RoHS: Y; PinCount: 10; ComponentLink1Description: Manufacturer URL; ComponentLink1URL: http://www.national.com/; ComponentLink2Description: LMV712 Datasheet; ComponentLink2URL: http://www.national.com/ds/LM/LMV712.pdf; ComponentLink3Description: LMV712 Web Page; ComponentLink3URL: http://www.national.com/pf/LM/LMV712.html; ComponentLink4Description: LDA10A Package Page; ComponentLink4URL: http://www.national.com/packaging/folders/lda10a.html
footprint LDA10A (PSON, 10-Leads, Body 3x3mm, Pitch 0.5mm, NSC Recommended)
pins on every part: 4 V- (power), 10 V+ (power)
part A pins: 1 OUTA (out), 2 INA- (in), 3 INA+ (in), 5 SDA
part B pins: 6 SDB, 7 INB+ (in), 8 INB- (in), 9 OUTB (out)
part C pins: 11 DAP

## LMV712MM
designator U?
Low Power, Low Noise, High Output, RRIO Dual Operational Amplifier with Independent Shutdown, 10-pin MSOP; PartNumber: LMV712MM; Manufacturer: National Semiconductor; PackageTopMarking: ZXTT*A61; PowerWise: N; CompType: Amplifiers; High-Reliability: Y; DatasheetVersion: Apr-2008; PackageVersion: revB, Jul-2003; PackageReference: MUB10A; PackageDescription: Mini-SO, Molded, .118 x .118 x .034in Body, 10 Lead, .0197in Pitch; RoHS: N; PinCount: 10; Code_JEDEC: MO-187-BA; ComponentLink1Description: Manufacturer URL; ComponentLink1URL: http://www.national.com/; ComponentLink2Description: LMV712 Datasheet; ComponentLink2URL: http://www.national.com/ds/LM/LMV712.pdf; ComponentLink3Description: LMV712 Web Page; ComponentLink3URL: http://www.national.com/pf/LM/LMV712.html; ComponentLink4Description: MUB10A Package Page; ComponentLink4URL: http://www.national.com/packaging/folders/mub10a.html
footprint MUB10A_N (TSSOP, 10-Leads, Body 3x3mm, Pitch 0.5mm, IPC Medium Density)
footprint MUB10A_L (TSSOP, 10-Leads, Body 3x3mm, Pitch 0.5mm, IPC High Density)
footprint MUB10A_M (TSSOP, 10-Leads, Body 3x3mm, Pitch 0.5mm, IPC Low Density)
pins on every part: 4 V- (power), 10 V+ (power)
part A pins: 1 OUTA (out), 2 INA- (in), 3 INA+ (in), 5 SDA
part B pins: 6 SDB, 7 INB+ (in), 8 INB- (in), 9 OUTB (out)

## LMV712MM/NOPB
designator U?
Low Power, Low Noise, High Output, RRIO Dual Operational Amplifier with Independent Shutdown, 10-pin Mini SOIC, Pb-Free; PartNumber: LMV712MM/NOPB; Manufacturer: National Semiconductor; PackageTopMarking: ZXTT*A61; PowerWise: N; CompType: Amplifiers; High-Reliability: Y; DatasheetVersion: Apr-2008; PackageVersion: revB, Jul-2003; PackageReference: MUB10A; PackageDescription: Mini-SO, Molded, .118 x .118 x .034in Body, 10 Lead, .0197in Pitch; RoHS: Y; PinCount: 10; Code_JEDEC: MO-187-BA; ComponentLink1Description: Manufacturer URL; ComponentLink1URL: http://www.national.com/; ComponentLink2Description: LMV712 Datasheet; ComponentLink2URL: http://www.national.com/ds/LM/LMV712.pdf; ComponentLink3Description: LMV712 Web Page; ComponentLink3URL: http://www.national.com/pf/LM/LMV712.html; ComponentLink4Description: MUB10A Package Page; ComponentLink4URL: http://www.national.com/packaging/folders/mub10a.html
footprint MUB10A_N (TSSOP, 10-Leads, Body 3x3mm, Pitch 0.5mm, IPC Medium Density)
footprint MUB10A_L (TSSOP, 10-Leads, Body 3x3mm, Pitch 0.5mm, IPC High Density)
footprint MUB10A_M (TSSOP, 10-Leads, Body 3x3mm, Pitch 0.5mm, IPC Low Density)
pins on every part: 4 V- (power), 10 V+ (power)
part A pins: 1 OUTA (out), 2 INA- (in), 3 INA+ (in), 5 SDA
part B pins: 6 SDB, 7 INB+ (in), 8 INB- (in), 9 OUTB (out)

## LMV712MMX
designator U?
Low Power, Low Noise, High Output, RRIO Dual Operational Amplifier with Independent Shutdown, 10-pin Mini SOIC; PartNumber: LMV712MMX; Manufacturer: National Semiconductor; PackageTopMarking: ZXTT*A61; PowerWise: N; CompType: Amplifiers; High-Reliability: Y; DatasheetVersion: Apr-2008; PackageVersion: revB, Jul-2003; PackageReference: MUB10A; PackageDescription: Mini-SO, Molded, .118 x .118 x .034in Body, 10 Lead, .0197in Pitch; RoHS: N; PinCount: 10; Code_JEDEC: MO-187-BA; ComponentLink1Description: Manufacturer URL; ComponentLink1URL: http://www.national.com/; ComponentLink2Description: LMV712 Datasheet; ComponentLink2URL: http://www.national.com/ds/LM/LMV712.pdf; ComponentLink3Description: LMV712 Web Page; ComponentLink3URL: http://www.national.com/pf/LM/LMV712.html; ComponentLink4Description: MUB10A Package Page; ComponentLink4URL: http://www.national.com/packaging/folders/mub10a.html
footprint MUB10A_N (TSSOP, 10-Leads, Body 3x3mm, Pitch 0.5mm, IPC Medium Density)
footprint MUB10A_L (TSSOP, 10-Leads, Body 3x3mm, Pitch 0.5mm, IPC High Density)
footprint MUB10A_M (TSSOP, 10-Leads, Body 3x3mm, Pitch 0.5mm, IPC Low Density)
pins on every part: 4 V- (power), 10 V+ (power)
part A pins: 1 OUTA (out), 2 INA- (in), 3 INA+ (in), 5 SDA
part B pins: 6 SDB, 7 INB+ (in), 8 INB- (in), 9 OUTB (out)

## LMV712TL
designator U?
Low Power, Low Noise, High Output, RRIO Dual Operational Amplifier with Independent Shutdown, 10-pin Micro SMD; PartNumber: LMV712TL; Manufacturer: National Semiconductor; PackageTopMarking: XYTT*I AU2A; PowerWise: N; CompType: Amplifiers; High-Reliability: Y; DatasheetVersion: Apr-2008; PackageVersion: revD, Mar-2004; PackageReference: TLP10BBA; PackageDescription: Thin Micro SMD, 10 Bump (Large), 0.5mm Pitch; RoHS: Y; PinCount: 10; Code_JEDEC: MO-211-BD; ComponentLink1Description: Manufacturer URL; ComponentLink1URL: http://www.national.com/; ComponentLink2Description: LMV712 Datasheet; ComponentLink2URL: http://www.national.com/ds/LM/LMV712.pdf; ComponentLink3Description: LMV712 Web Page; ComponentLink3URL: http://www.national.com/pf/LM/LMV712.html; ComponentLink4Description: TLP10BBA Package Page; ComponentLink4URL: http://www.national.com/packaging/folders/tlp10bba.html
footprint TLP10BBA (Micro SMD, 10-Leads, Body 2.02x1.54mm, Pitch 0.5mm, NSC Recommended)
pins on every part: A2 V+ (power), D2 V- (power)
part A pins: A1 OUTA (out), B1 INA- (in), C1 INA+ (in), D1 SDA
part B pins: A3 OUTB (out), B3 INB- (in), C3 INB+ (in), D3 SDB

## LMV712TL/NOPB
designator U?
Low Power, Low Noise, High Output, RRIO Dual Operational Amplifier with Independent Shutdown, 10-pin Micro SMD, Pb-Free; PartNumber: LMV712TL/NOPB; Manufacturer: National Semiconductor; PackageTopMarking: XYTT*I AU2A; PowerWise: N; CompType: Amplifiers; High-Reliability: Y; DatasheetVersion: Apr-2008; PackageVersion: revD, Mar-2004; PackageReference: TLP10BBA; PackageDescription: Thin Micro SMD, 10 Bump (Large), 0.5mm Pitch; RoHS: Y; PinCount: 10; Code_JEDEC: MO-211-BD; ComponentLink1Description: Manufacturer URL; ComponentLink1URL: http://www.national.com/; ComponentLink2Description: LMV712 Datasheet; ComponentLink2URL: http://www.national.com/ds/LM/LMV712.pdf; ComponentLink3Description: LMV712 Web Page; ComponentLink3URL: http://www.national.com/pf/LM/LMV712.html; ComponentLink4Description: TLP10BBA Package Page; ComponentLink4URL: http://www.national.com/packaging/folders/tlp10bba.html
footprint TLP10BBA (Micro SMD, 10-Leads, Body 2.02x1.54mm, Pitch 0.5mm, NSC Recommended)
pins on every part: A2 V+ (power), D2 V- (power)
part A pins: A1 OUTA (out), B1 INA- (in), C1 INA+ (in), D1 SDA
part B pins: A3 OUTB (out), B3 INB- (in), C3 INB+ (in), D3 SDB

## LMV712TLX/NOPB
designator U?
Low Power, Low Noise, High Output, RRIO Dual Operational Amplifier with Independent Shutdown, 10-pin Micro SMD, Pb-Free; PartNumber: LMV712TLX/NOPB; Manufacturer: National Semiconductor; PackageTopMarking: XYTT*I AU2A; PowerWise: N; CompType: Amplifiers; High-Reliability: Y; DatasheetVersion: Apr-2008; PackageVersion: revD, Mar-2004; PackageReference: TLP10BBA; PackageDescription: Thin Micro SMD, 10 Bump (Large), 0.5mm Pitch; RoHS: Y; PinCount: 10; Code_JEDEC: MO-211-BD; ComponentLink1Description: Manufacturer URL; ComponentLink1URL: http://www.national.com/; ComponentLink2Description: LMV712 Datasheet; ComponentLink2URL: http://www.national.com/ds/LM/LMV712.pdf; ComponentLink3Description: LMV712 Web Page; ComponentLink3URL: http://www.national.com/pf/LM/LMV712.html; ComponentLink4Description: TLP10BBA Package Page; ComponentLink4URL: http://www.national.com/packaging/folders/tlp10bba.html
footprint TLP10BBA (Micro SMD, 10-Leads, Body 2.02x1.54mm, Pitch 0.5mm, NSC Recommended)
pins on every part: A2 V+ (power), D2 V- (power)
part A pins: A1 OUTA (out), B1 INA- (in), C1 INA+ (in), D1 SDA
part B pins: A3 OUTB (out), B3 INB- (in), C3 INB+ (in), D3 SDB

## LMV716MM
designator U?
5 MHz, Low Noise Dual Operational Amplifiers with CMOS Input, 8-pin Mini SOIC; PartNumber: LMV716MM; Manufacturer: National Semiconductor; PackageTopMarking: ZXTT*AR3A; PowerWise: N; High-Reliability: Y; DatasheetVersion: Sep-2006; PackageVersion: revF, Apr-2008; PackageReference: MUA08A; PackageDescription: MINI SOIC, .118 x .118 x .034in, 8 Lead, .0256in Pitch; RoHS: N; PinCount: 8; CompType: Amplifiers; Code_JEDEC: MO-187-AA; ComponentLink1Description: Manufacturer URL; ComponentLink1URL: http://www.national.com/; ComponentLink2Description: LMV716 Datasheet; ComponentLink2URL: http://www.national.com/ds/LM/LMV716.pdf; ComponentLink3Description: LMV716 Web Page; ComponentLink3URL: http://www.national.com/pf/LM/LMV716.html; ComponentLink4Description: MUA08A Package Page; ComponentLink4URL: http://www.national.com/packaging/folders/mua08a.html
footprint MUA08A_N (TSOP, 8-Leads, Body 3x3mm, Pitch 0.65mm, IPC Medium Density)
footprint MUA08A_L (TSOP, 8-Leads, Body 3x3mm, Pitch 0.65mm, IPC High Density)
footprint MUA08A_M (TSOP, 8-Leads, Body 3x3mm, Pitch 0.65mm, IPC Low Density)
pins on every part: 4 V- (power), 8 V+ (power)
part A pins: 1 OUTA (out), 2 INA- (in), 3 INA+ (in)
part B pins: 5 INB+ (in), 6 INB- (in), 7 OUTB (out)

## LMV716MM/NOPB
designator U?
5 MHz, Low Noise Dual Operational Amplifiers with CMOS Input, 8-pin Mini SOIC, Pb-Free; PartNumber: LMV716MM/NOPB; Manufacturer: National Semiconductor; PackageTopMarking: ZXTT*AR3A; PowerWise: N; High-Reliability: Y; DatasheetVersion: Sep-2006; PackageVersion: revF, Apr-2008; PackageReference: MUA08A; PackageDescription: MINI SOIC, .118 x .118 x .034in, 8 Lead, .0256in Pitch; RoHS: Y; PinCount: 8; CompType: Amplifiers; Code_JEDEC: MO-187-AA; ComponentLink1Description: Manufacturer URL; ComponentLink1URL: http://www.national.com/; ComponentLink2Description: LMV716 Datasheet; ComponentLink2URL: http://www.national.com/ds/LM/LMV716.pdf; ComponentLink3Description: LMV716 Web Page; ComponentLink3URL: http://www.national.com/pf/LM/LMV716.html; ComponentLink4Description: MUA08A Package Page; ComponentLink4URL: http://www.national.com/packaging/folders/mua08a.html
footprint MUA08A_N (TSOP, 8-Leads, Body 3x3mm, Pitch 0.65mm, IPC Medium Density)
footprint MUA08A_L (TSOP, 8-Leads, Body 3x3mm, Pitch 0.65mm, IPC High Density)
footprint MUA08A_M (TSOP, 8-Leads, Body 3x3mm, Pitch 0.65mm, IPC Low Density)
pins on every part: 4 V- (power), 8 V+ (power)
part A pins: 1 OUTA (out), 2 INA- (in), 3 INA+ (in)
part B pins: 5 INB+ (in), 6 INB- (in), 7 OUTB (out)

## LMV716MMX
designator U?
5 MHz, Low Noise Dual Operational Amplifiers with CMOS Input, 8-pin Mini SOIC; PartNumber: LMV716MMX; Manufacturer: National Semiconductor; PackageTopMarking: ZXTT*AR3A; PowerWise: N; High-Reliability: Y; DatasheetVersion: Sep-2006; PackageVersion: revF, Apr-2008; PackageReference: MUA08A; PackageDescription: MINI SOIC, .118 x .118 x .034in, 8 Lead, .0256in Pitch; RoHS: N; PinCount: 8; CompType: Amplifiers; Code_JEDEC: MO-187-AA; ComponentLink1Description: Manufacturer URL; ComponentLink1URL: http://www.national.com/; ComponentLink2Description: LMV716 Datasheet; ComponentLink2URL: http://www.national.com/ds/LM/LMV716.pdf; ComponentLink3Description: LMV716 Web Page; ComponentLink3URL: http://www.national.com/pf/LM/LMV716.html; ComponentLink4Description: MUA08A Package Page; ComponentLink4URL: http://www.national.com/packaging/folders/mua08a.html
footprint MUA08A_N (TSOP, 8-Leads, Body 3x3mm, Pitch 0.65mm, IPC Medium Density)
footprint MUA08A_L (TSOP, 8-Leads, Body 3x3mm, Pitch 0.65mm, IPC High Density)
footprint MUA08A_M (TSOP, 8-Leads, Body 3x3mm, Pitch 0.65mm, IPC Low Density)
pins on every part: 4 V- (power), 8 V+ (power)
part A pins: 1 OUTA (out), 2 INA- (in), 3 INA+ (in)
part B pins: 5 INB+ (in), 6 INB- (in), 7 OUTB (out)

## LMV716MMX/NOPB
designator U?
5 MHz, Low Noise Dual Operational Amplifiers with CMOS Input, 8-pin Mini SOIC, Pb-Free; PartNumber: LMV716MMX/NOPB; Manufacturer: National Semiconductor; PackageTopMarking: ZXTT*AR3A; PowerWise: N; High-Reliability: Y; DatasheetVersion: Sep-2006; PackageVersion: revF, Apr-2008; PackageReference: MUA08A; PackageDescription: MINI SOIC, .118 x .118 x .034in, 8 Lead, .0256in Pitch; RoHS: Y; PinCount: 8; CompType: Amplifiers; Code_JEDEC: MO-187-AA; ComponentLink1Description: Manufacturer URL; ComponentLink1URL: http://www.national.com/; ComponentLink2Description: LMV716 Datasheet; ComponentLink2URL: http://www.national.com/ds/LM/LMV716.pdf; ComponentLink3Description: LMV716 Web Page; ComponentLink3URL: http://www.national.com/pf/LM/LMV716.html; ComponentLink4Description: MUA08A Package Page; ComponentLink4URL: http://www.national.com/packaging/folders/mua08a.html
footprint MUA08A_N (TSOP, 8-Leads, Body 3x3mm, Pitch 0.65mm, IPC Medium Density)
footprint MUA08A_L (TSOP, 8-Leads, Body 3x3mm, Pitch 0.65mm, IPC High Density)
footprint MUA08A_M (TSOP, 8-Leads, Body 3x3mm, Pitch 0.65mm, IPC Low Density)
pins on every part: 4 V- (power), 8 V+ (power)
part A pins: 1 OUTA (out), 2 INA- (in), 3 INA+ (in)
part B pins: 5 INB+ (in), 6 INB- (in), 7 OUTB (out)